# EAGLE library part JAMMA-EDGE (library JAMMA)
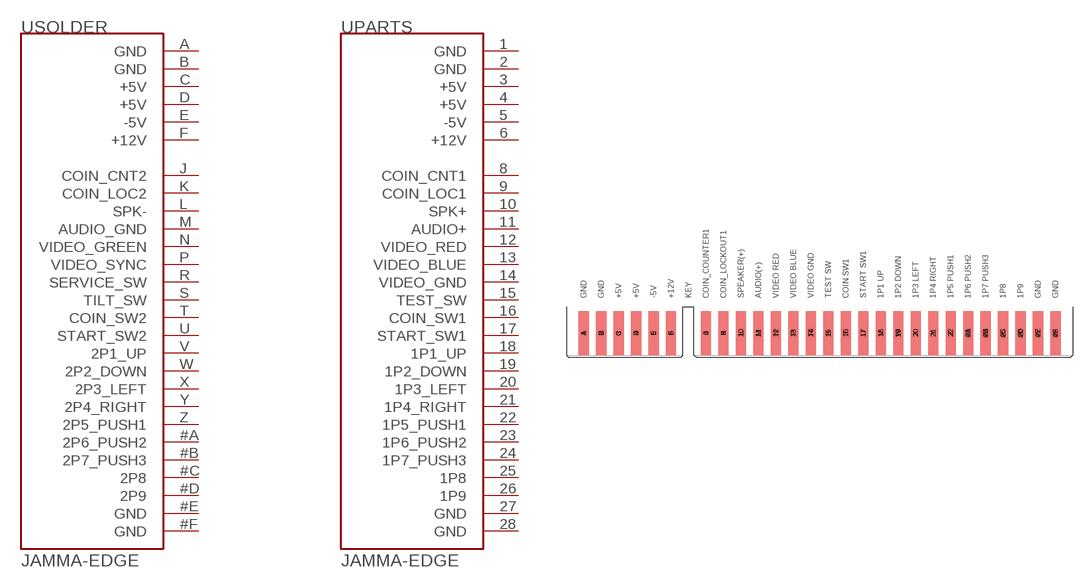
[diagram p2: symbol with the pads of JAMMA-EDGE; footprint JAMMA-EDGE]

Designator prefix -; gates PARTS=JAMMA_TOP SOLDER=JAMMA_BOTTOM

## JAMMA-EDGE  [JAMMA-EDGE]
1  PARTS:GND  pwr
2  PARTS:GND  pwr
3  PARTS:+5V  pwr
4  PARTS:+5V  pwr
5  PARTS:-5V  pwr
6  PARTS:+12V  pwr
8  PARTS:COIN_CNT1  out
9  PARTS:COIN_LOC1  out
10  PARTS:SPK+  out
11  PARTS:AUDIO+  out
12  PARTS:VIDEO_RED  out
13  PARTS:VIDEO_BLUE  out
14  PARTS:VIDEO_GND  out
15  PARTS:TEST_SW  in
16  PARTS:COIN_SW1  in
17  PARTS:START_SW1  in
18  PARTS:1P1_UP  in
19  PARTS:1P2_DOWN  in
20  PARTS:1P3_LEFT  in
21  PARTS:1P4_RIGHT  in
22  PARTS:1P5_PUSH1  in
23  PARTS:1P6_PUSH2  in
24  PARTS:1P7_PUSH3  in
25  PARTS:1P8  in
26  PARTS:1P9  in
27  PARTS:GND  pwr
28  PARTS:GND  pwr
#A  SOLDER:2P6_PUSH2  in
#B  SOLDER:2P7_PUSH3  in
#C  SOLDER:2P8  in
#D  SOLDER:2P9  in
#E  SOLDER:GND  pwr
#F  SOLDER:GND  pwr
A  SOLDER:GND  pwr
B  SOLDER:GND  pwr
C  SOLDER:+5V  pwr
D  SOLDER:+5V  pwr
E  SOLDER:-5V  pwr
F  SOLDER:+12V  pwr
J  SOLDER:COIN_CNT2  out
K  SOLDER:COIN_LOC2  out
L  SOLDER:SPK-  out
M  SOLDER:AUDIO_GND  out
N  SOLDER:VIDEO_GREEN  out
P  SOLDER:VIDEO_SYNC  out
R  SOLDER:SERVICE_SW  in
S  SOLDER:TILT_SW  in
T  SOLDER:COIN_SW2  in
U  SOLDER:START_SW2  in
V  SOLDER:2P1_UP  in
W  SOLDER:2P2_DOWN  in
X  SOLDER:2P3_LEFT  in
Y  SOLDER:2P4_RIGHT  in
Z  SOLDER:2P5_PUSH1  in

## Footprint JAMMA-EDGE (pad centres in mm)
smd 2.3 x 10: 1 -0.12,5.08; 2 3.84,5.08; 3 7.8,5.08; 4 11.76,5.08; 5 15.72,5.08; 6 19.68,5.08; 8 27.6,5.08; 9 31.56,5.08; 10 35.52,5.08; 11 39.48,5.08; 12 43.44,5.08; 13 47.4,5.08; 14 51.36,5.08; 15 55.32,5.08; 16 59.28,5.08; 17 63.24,5.08; 18 67.2,5.08; 19 71.16,5.08; 20 75.12,5.08; 21 79.08,5.08; 22 83.04,5.08; 23 87,5.08; 24 90.96,5.08; 25 94.92,5.08; 26 98.88,5.08; 27 102.84,5.08; 28 106.8,5.08
smd 2.3 x 10 bottom: #A 87,5.08; #B 90.96,5.08; #C 94.92,5.08; #D 98.88,5.08; #E 102.84,5.08; #F 106.8,5.08; A -0.12,5.08; B 3.84,5.08; C 7.8,5.08; D 11.76,5.08; E 15.72,5.08; F 19.68,5.08; J 27.6,5.08; K 31.56,5.08; L 35.52,5.08; M 39.48,5.08; N 43.44,5.08; P 47.4,5.08; R 51.36,5.08; S 55.32,5.08; T 59.28,5.08; U 63.24,5.08; V 67.2,5.08; W 71.16,5.08; X 75.12,5.08; Y 79.08,5.08; Z 83.04,5.08